# Altium footprint library HD3.PcbLib: 18 footprints (part 2 of 2)
Each footprint in its own frame and in the unit in brackets; x right, y up, seen from the top. Pads: shape width x height; smd on the part's side, far side on the other; paste and mask are expansions set on the pad; w line width, h text height; cw(c..) or ccw(c..) is an arc to the next point about the centre after c.
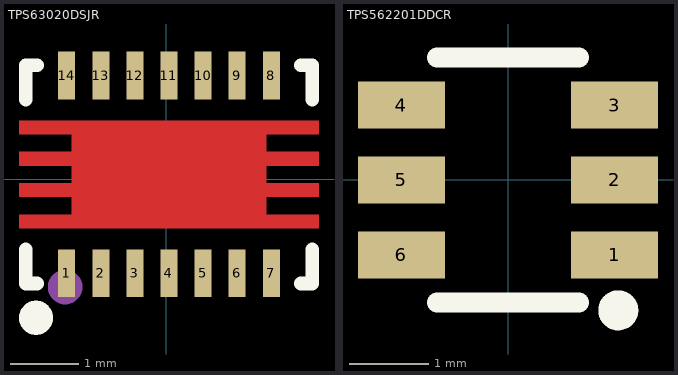
[diagram p1: the footprints below, top view; thin cyan lines are the x and y axes]

## TPS63020DSJR [mm]
pads (14):
  rect 0.25x0.7 smd paste+0 mask+0.051: 1(-1.459,-1.383) 2(-0.959,-1.383) 3(-0.459,-1.383) 4(0.041,-1.383) 5(0.541,-1.383) 6(1.041,-1.383) 7(1.541,-1.383) 8(1.541,1.517) 9(1.041,1.517) 10(0.541,1.517) 11(0.041,1.517) 12(-0.459,1.517) 13(-0.959,1.517) 14(-1.459,1.517)
Top Layer:
  region: -2.159,0.857 -2.159,0.657 -1.389,0.657 -1.389,0.397 -2.159,0.397 -2.159,0.197 -1.389,0.197 -1.389,-0.063 -2.159,-0.063 -2.159,-0.263 -1.389,-0.263 -1.389,-0.523 -2.159,-0.523 -2.159,-0.723 2.241,-0.723 2.241,-0.523 1.471,-0.523 1.471,-0.263 2.241,-0.263 2.241,-0.063 1.471,-0.063 1.471,0.197 2.241,0.197 2.241,0.397 1.471,0.397 1.471,0.657 2.241,0.657 2.241,0.857
Top Overlay:
  lines w0.2: -2.059,-1.033 -2.059,-1.533 -1.889,-1.533 ; -2.059,1.167 -2.059,1.667 -1.889,1.667 ; 1.971,-1.533 2.141,-1.533 2.141,-1.033 ; 1.971,1.667 2.141,1.667 2.141,1.167
  lines w0.25: -1.91,-1.909 ccw(c-1.908,-2.034) -1.907,-1.909
Mechanical 15:
  circle w0.254: c-1.483,-1.584 r0.127

## TPS562201DDCR [mm]
pads (6):
  rect 1.1x0.6 smd paste+0 mask+0.051: 1(1.345,-0.95) 2(1.345,0) 3(1.345,0.95) 4(-1.355,0.95) 5(-1.355,0) 6(-1.355,-0.95)
Top Overlay:
  circle w0.254: c1.392,-1.651 r0.127
  lines w0.254: -0.905,-1.55 0.895,-1.55 ; -0.905,1.55 0.895,1.55
Mechanical 15:
  circle w0.2: c1.395,-0.95 r0.1